# EAGLE library part SA15-11 (library Kingbright)
Display 7 segmenti 38,1 mm anodo comune
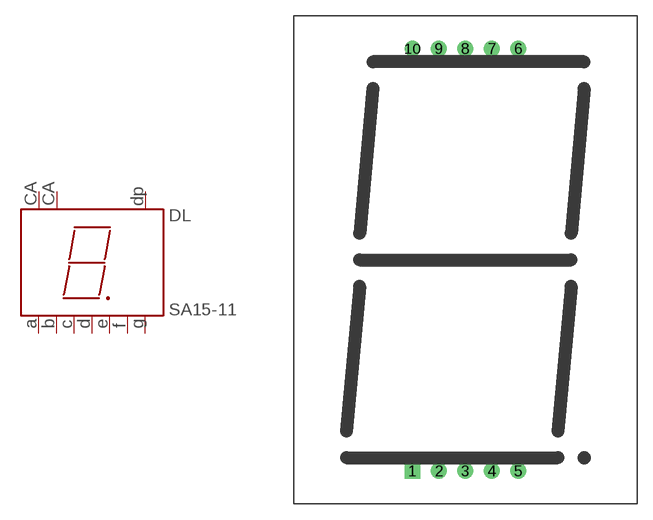
[diagram p0: symbol with the pads of SA15-11; footprint SA15-11]

Designator prefix DL

## SA15-11*  [SA15-11]
1  CA  pas
2  E  pas
3  D  pas
4  C  pas
5  CA  pas
6  B  pas
7  A  pas
8  DP  pas
9  F  pas
10  G  pas

## Footprint SA15-11 (pad centres in mm)
drill 1.016 square: 1 -5.08,-20.32
drill 1.016 round: 2 -2.54,-20.32; 3 0,-20.32; 4 2.54,-20.32; 5 5.08,-20.32; 6 5.08,20.32; 7 2.54,20.32; 8 0,20.32; 9 -2.54,20.32; 10 -5.08,20.32